# EAGLE library part JS202011CQN (library switch)
DPDT through hole slide switch
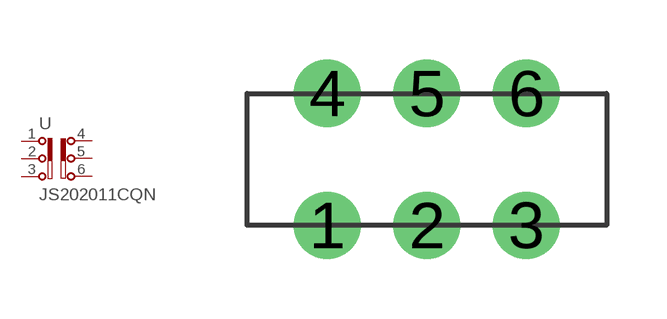
[diagram p1: symbol with the pads of JS202011CQN; footprint JS202011CQN]

Designator prefix -

## JS202011CQN  [JS202011CQN]
1  1  pas
2  2  pas
3  3  pas
4  4  pas
5  5  pas
6  6  pas

## Footprint JS202011CQN (pad centres in mm)
DTDT through hole slide switch
drill 0.9 pad 1.676: 1 -2.489,-1.651; 2 0,-1.651; 3 2.489,-1.651; 4 -2.489,1.651; 5 0,1.651; 6 2.489,1.651